# Altium schematic symbol library MUR4060.SchLib: 1 symbol
Pins are listed as number, name and electrical type; pins without a type are passive.

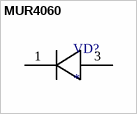
[diagram p0: symbol MUR4060]

## MUR4060
designator VD?
footprint TO-247-2
footprint TO-247-2_Vishay
pins: 1, 3